# EAGLE library part HDR-2X32 (library Mechanical)
100mil spaced 42mil drill 2x32 connector
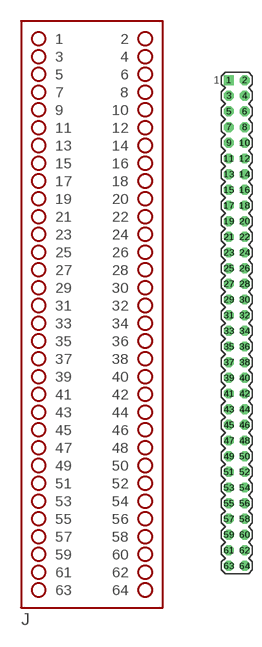
[diagram p48: symbol with the pads of HDR-2X32; footprint HDR-2X32]

Designator prefix J

## HDR-2X32  [HDR-2X32]
1  1  pas
2  2  pas
3  3  pas
4  4  pas
5  5  pas
6  6  pas
7  7  pas
8  8  pas
9  9  pas
10  10  pas
11  11  pas
12  12  pas
13  13  pas
14  14  pas
15  15  pas
16  16  pas
17  17  pas
18  18  pas
19  19  pas
20  20  pas
21  21  pas
22  22  pas
23  23  pas
24  24  pas
25  25  pas
26  26  pas
27  27  pas
28  28  pas
29  29  pas
30  30  pas
31  31  pas
32  32  pas
33  33  pas
34  34  pas
35  35  pas
36  36  pas
37  37  pas
38  38  pas
39  39  pas
40  40  pas
41  41  pas
42  42  pas
43  43  pas
44  44  pas
45  45  pas
46  46  pas
47  47  pas
48  48  pas
49  49  pas
50  50  pas
51  51  pas
52  52  pas
53  53  pas
54  54  pas
55  55  pas
56  56  pas
57  57  pas
58  58  pas
59  59  pas
60  60  pas
61  61  pas
62  62  pas
63  63  pas
64  64  pas

## Footprint HDR-2X32 (pad centres in mm)
100mil spaced 42mil drill
drill 1.067 square: 1 -1.27,39.37
drill 1.067 octagon: 2 1.27,39.37; 3 -1.27,36.83; 4 1.27,36.83; 5 -1.27,34.29; 6 1.27,34.29; 7 -1.27,31.75; 8 1.27,31.75; 9 -1.27,29.21; 10 1.27,29.21; 11 -1.27,26.67; 12 1.27,26.67; 13 -1.27,24.13; 14 1.27,24.13; 15 -1.27,21.59; 16 1.27,21.59; 17 -1.27,19.05; 18 1.27,19.05; 19 -1.27,16.51; 20 1.27,16.51; 21 -1.27,13.97; 22 1.27,13.97; 23 -1.27,11.43; 24 1.27,11.43; 25 -1.27,8.89; 26 1.27,8.89; 27 -1.27,6.35; 28 1.27,6.35; 29 -1.27,3.81; 30 1.27,3.81; 31 -1.27,1.27; 32 1.27,1.27; 33 -1.27,-1.27; 34 1.27,-1.27; 35 -1.27,-3.81; 36 1.27,-3.81; 37 -1.27,-6.35; 38 1.27,-6.35; 39 -1.27,-8.89; 40 1.27,-8.89; 41 -1.27,-11.43; 42 1.27,-11.43; 43 -1.27,-13.97; 44 1.27,-13.97; 45 -1.27,-16.51; 46 1.27,-16.51; 47 -1.27,-19.05; 48 1.27,-19.05; 49 -1.27,-21.59; 50 1.27,-21.59; 51 -1.27,-24.13; 52 1.27,-24.13; 53 -1.27,-26.67; 54 1.27,-26.67; 55 -1.27,-29.21; 56 1.27,-29.21; 57 -1.27,-31.75; 58 1.27,-31.75; 59 -1.27,-34.29; 60 1.27,-34.29; 61 -1.27,-36.83; 62 1.27,-36.83; 63 -1.27,-39.37; 64 1.27,-39.37